# EAGLE library part PTS525*G15 (library pts525_20)
PTS 525 Series Miniature Tact Switch for SMD Source: http://www.ck-components.com/14407/pts525_8sept14.pdf/
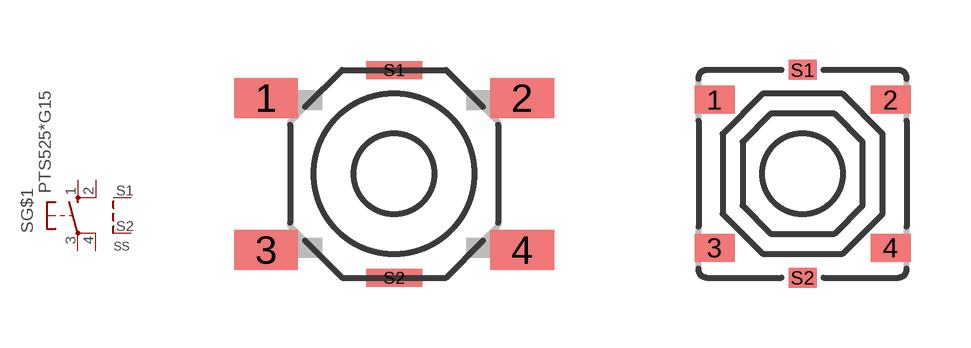
[diagram p0: symbol with the pads of SMG15; footprints SMG15, SMG15J]

Designator prefix S; gates G$1=TS2 S=SHIELD

## PTS525SKG15 (MF: C&K Components; MPN: PTS525SKG15SMTR2LFS; OC_FARNELL: unknown; OC_NEWARK: unknown), PTS525SMG15 (MF: C&K Components; MPN: PTS525SMG15SMTR2LFS; OC_FARNELL: unknown; OC_NEWARK: unknown)  [SMG15]
1  G$1:S  pas
2  G$1:S  pas
3  G$1:P  pas
4  G$1:P  pas
S1  S:S  pas
S2  S:S  pas

## PTS525SKG15J (MF: C&K Components; MPN: PTS525SKG15JSMTR2LFS; OC_FARNELL: unknown; OC_NEWARK: unknown), PTS525SMG15J (MF: C&K Components; MPN: PTS525SMG15JSMTR2LFS; OC_FARNELL: unknown; OC_NEWARK: unknown)  [SMG15J]
Pads as for SMG15

## Footprint SMG15 (pad centres in mm)
PTS 525 Series Miniature Tact Switch for SMD - 5.2x5.2x1.5 mm Body [SMG15] Source: http://www.ck-components.com/14407/pts525_8sept14.pdf/
smd 1.6 x 1: 1 -3.2,1.9; 2 3.2,1.9; 3 -3.2,-1.9; 4 3.2,-1.9
smd 1.4 x 0.45: S1 0,2.6; S2 0,-2.6

## Footprint SMG15J (pad centres in mm)
PTS 525 Series Miniature Tact Switch for SMD - J-leaded 5.2x5.2x1.5 mm Body [SMG15] Source: http://www.ck-components.com/14407/pts525_8sept14.pdf/
smd 1 x 0.7: 1 -2.2,1.85; 2 2.2,1.85; 3 -2.2,-1.85; 4 2.2,-1.85
smd 0.7 x 0.5: S1 0,2.6; S2 0,-2.6